# EAGLE library part AVRISP (library E-dice)
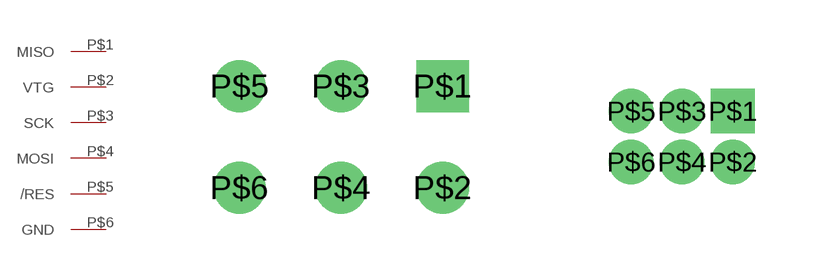
[diagram p0: symbol with the pads of AVRISP; footprints AVRISP, 2X6-127]

Designator prefix -

## AVRISP  [AVRISP]
P$1  MISO
P$2  VTG
P$3  SCK
P$4  MOSI
P$5  /RES
P$6  GND

## AVRISP1.27  [2X6-127]
Pads as for AVRISP

## Footprint AVRISP (pad centres in mm)
drill 0.8 square: P$1 2.54,1.27
drill 0.8: P$2 2.54,-1.27; P$3 0,1.27; P$4 0,-1.27; P$5 -2.54,1.27; P$6 -2.54,-1.27

## Footprint 2X6-127 (pad centres in mm)
drill 0.6 pad 0.813 square: P$1 1.27,1.27
drill 0.6 pad 0.813: P$2 1.27,0; P$3 0,1.27; P$4 0,0; P$5 -1.27,1.27; P$6 -1.27,0